# EAGLE library part CY8C4200-40PIN (library FlashPCB_ICs)
CY8C4200 - Microcontroller IC 32-Bit Single-Core Technical Specifications: Number of I/O: 34 Speed: 48MHz Core Size: 32-Bit Single-Core Voltage - Supply (Vcc/Vdd): 1.71V ~ 5.5V Operating Temperature: -40°C ~ 85°C (TA)/li> Component Search: PSoC® 4: PSoC 4200 Family Datasheet Programmable System-on-Chip (PSoC®) <[FLASHPCB URL]> Datasheet: PSoC® 4: PSoC 4200 Family Datasheet Programmable System-on-Chip (PSoC®) <https://www.infineon.com/dgdl/Infineon-PSOC_4_PSOC_4200_FAMILY_DATASHEET_PROGRAMMABLE_SYSTEM-ON-CHIP-DataSheet-v12_00-EN.pdf?fileId=8ac78c8c7d0d8da4017d0ec80ee2400e&utm_source=cypress&utm_medium=referral&utm_campaign=202110_globe_en_all_integration-files>
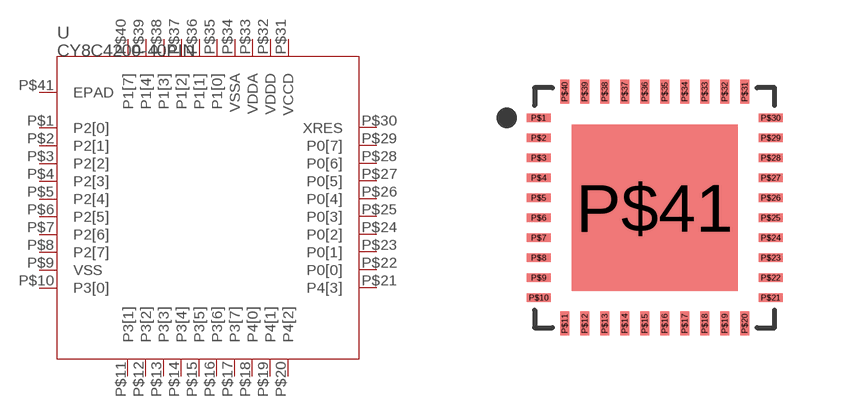
[diagram p38: symbol with the pads of 40-QFN(6X6); footprint 40-QFN(6X6)]

Designator prefix U

## CY8C4200-40PIN  [40-QFN(6X6)]
P$1  P2[0]
P$2  P2[1]
P$3  P2[2]
P$4  P2[3]
P$5  P2[4]
P$6  P2[5]
P$7  P2[6]
P$8  P2[7]
P$9  VSS
P$10  P3[0]
P$11  P3[1]
P$12  P3[2]
P$13  P3[3]
P$14  P3[4]
P$15  P3[5]
P$16  P3[6]
P$17  P3[7]
P$18  P4[0]
P$19  P4[1]
P$20  P4[2]
P$21  P4[3]
P$22  P0[0]
P$23  P0[1]
P$24  P0[2]
P$25  P0[3]
P$26  P0[4]
P$27  P0[5]
P$28  P0[6]
P$29  P0[7]
P$30  XRES
P$31  VCCD
P$32  VDDD
P$33  VDDA
P$34  VSSA
P$35  P1[0]
P$36  P1[1]
P$37  P1[2]
P$38  P1[3]
P$39  P1[4]
P$40  P1[7]
P$41  EPAD

## Footprint 40-QFN(6X6) (pad centres in mm)
smd 0.6 x 0.22: P$1 -2.9,2.25; P$2 -2.9,1.75; P$3 -2.9,1.25; P$4 -2.9,0.75; P$5 -2.9,0.25; P$6 -2.9,-0.25; P$7 -2.9,-0.75; P$8 -2.9,-1.25; P$9 -2.9,-1.75; P$10 -2.9,-2.25; P$21 2.9,-2.25; P$22 2.9,-1.75; P$23 2.9,-1.25; P$24 2.9,-0.75; P$25 2.9,-0.25; P$26 2.9,0.25; P$27 2.9,0.75; P$28 2.9,1.25; P$29 2.9,1.75; P$30 2.9,2.25
smd 0.22 x 0.6: P$11 -2.25,-2.9; P$12 -1.75,-2.9; P$13 -1.25,-2.9; P$14 -0.75,-2.9; P$15 -0.25,-2.9; P$16 0.25,-2.9; P$17 0.75,-2.9; P$18 1.25,-2.9; P$19 1.75,-2.9; P$20 2.25,-2.9; P$31 2.25,2.9; P$32 1.75,2.9; P$33 1.25,2.9; P$34 0.75,2.9; P$35 0.25,2.9; P$36 -0.25,2.9; P$37 -0.75,2.9; P$38 -1.25,2.9; P$39 -1.75,2.9; P$40 -2.25,2.9
smd 4.15 x 4.15: P$41 0,0